# Altium schematic symbol library F0603G0R03FNTR.SchLib: 1 symbol
Pins are listed as number, name and electrical type; pins without a type are passive.

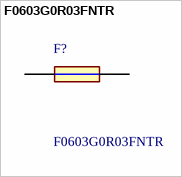
[diagram p0: symbol F0603G0R03FNTR]

## F0603G0R03FNTR
designator F?
Surface Mount Fuses .0375A 4.8mOhm Red Thin Film Fuses 0603; Manufacturer_Name: Kyocera AVX; Geometry.Height: 0.71mm; Mouser Part Number: 581-F0603G0R03FNTR; Mouser Price/Stock: https://www.mouser.co.uk/ProductDetail/Kyocera-AVX/F0603G0R03FNTR?qs=%252BdQmOuGyFcF4KSz8iSws5w%3D%3D; Manufacturer_Part_Number: F0603G0R03FNTR; Datasheet Link: https://www.mouser.fr/datasheet/2/40/AccuGuardLC_0402-932635.pdf
footprint F0603G0R03FNTR
pins: 1, 2